# Altium footprint library PcbIC.PcbLib: 24 footprints (part 1 of 2)
Each footprint in its own frame and in the unit in brackets; x right, y up, seen from the top. Pads: shape width x height; smd on the part's side, far side on the other; paste and mask are expansions set on the pad; w line width, h text height; cw(c..) or ccw(c..) is an arc to the next point about the centre after c.
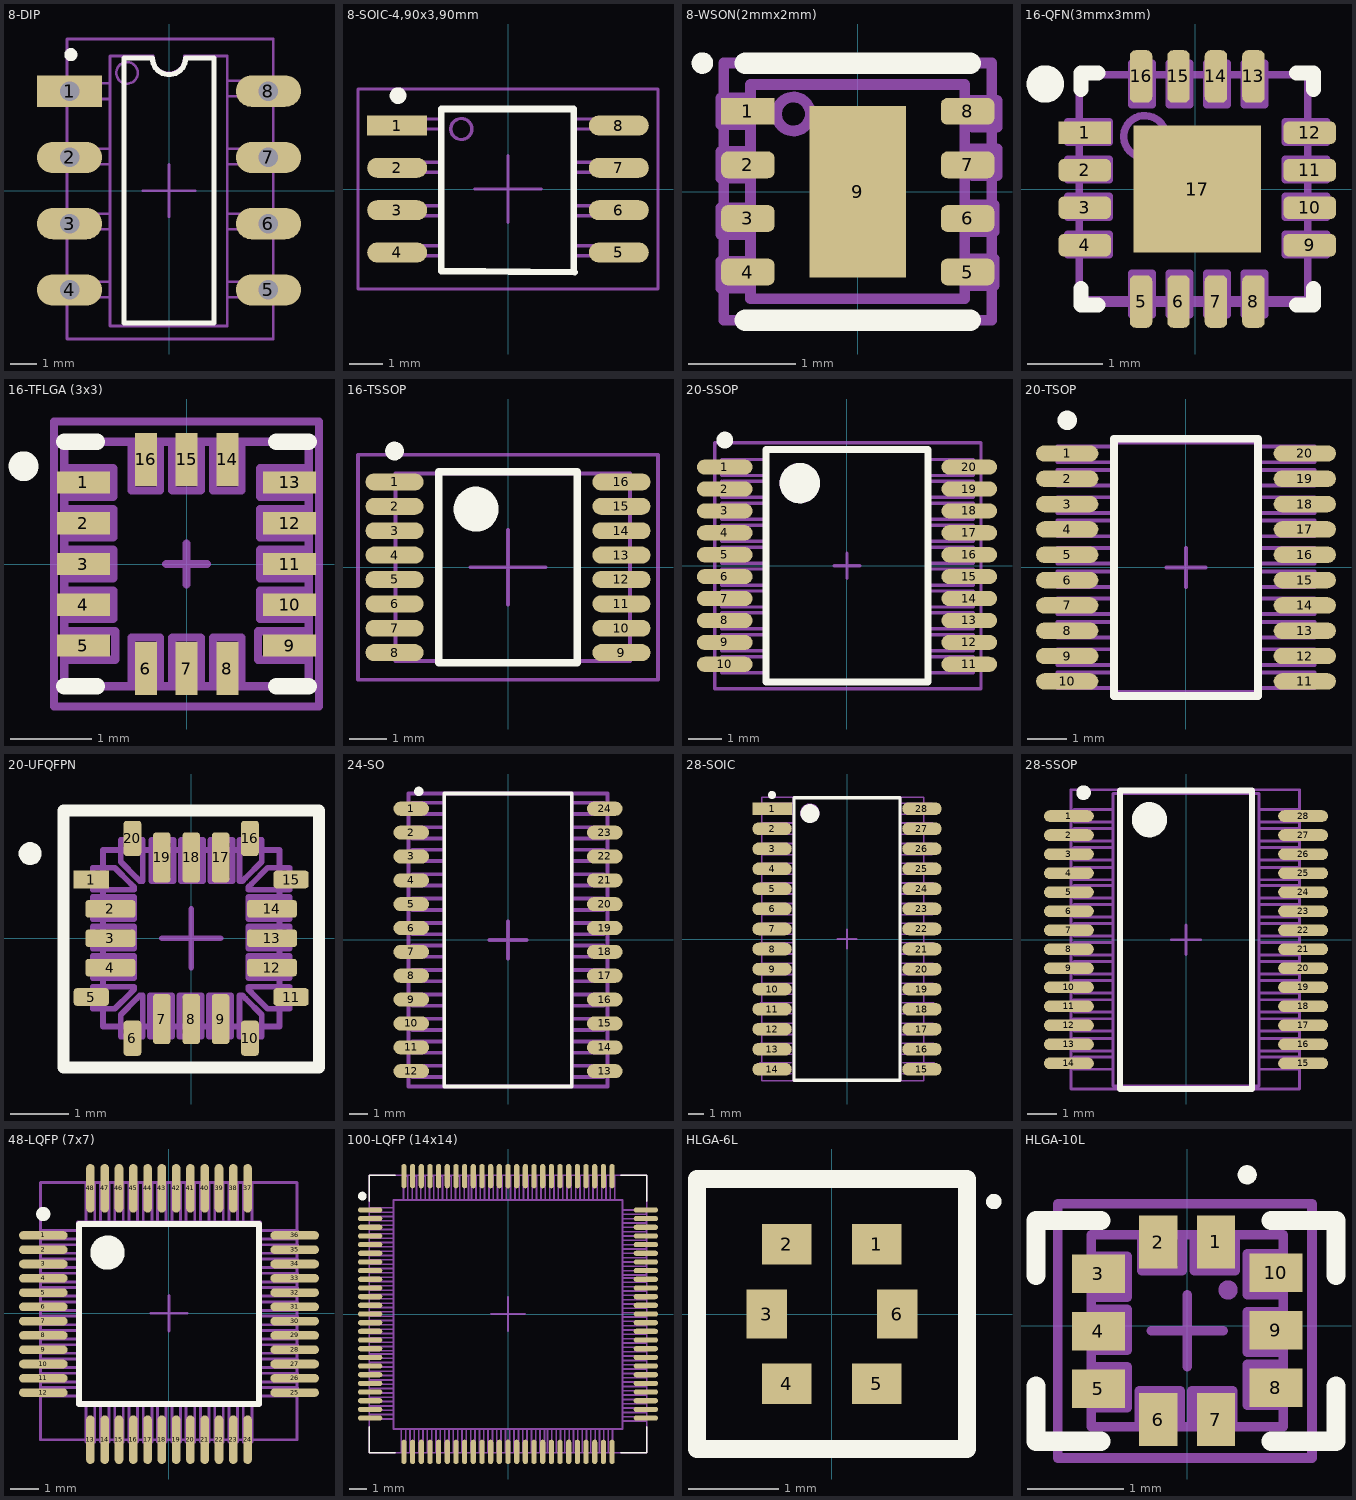
[diagram p0: the footprints below, top view; thin cyan lines are the x and y axes]

## 8-DIP [mm]
pads (8):
  rect 2.5x1.2 hole 0.75: 1(-3.81,3.81)
  oval 2.5x1.2 hole 0.75: 2(-3.81,1.27) 3(-3.81,-1.27) 4(-3.81,-3.81) 5(3.81,-3.81) 6(3.81,-1.27) 7(3.81,1.27) 8(3.81,3.81)
Top Overlay:
  circle w0.25: c-3.76,5.21 r0.125
  lines w0.2: -1.725,-5.08 -1.725,5.08 -0.635,5.08 ccw(c0,5.08) 0.635,5.08 1.725,5.08 1.725,-5.08 -1.725,-5.08
TopAssy:
  circle w0.1: c-1.61,4.51 r0.412
  lines w0.1: -2.26,-4.09 -4.71,-4.09 -4.71,-3.49 -2.26,-3.49 ; -2.26,-1.49 -4.71,-1.49 -4.71,-0.89 -2.26,-0.89 ; -2.26,1.01 -4.71,1.01 -4.71,1.61 -2.26,1.61 ; -2.26,3.51 -4.71,3.51 -4.71,4.11 -2.26,4.11 ; -2.135,5.16 -2.26,5.16 ; 2.24,-4.09 4.69,-4.09 4.69,-3.49 2.24,-3.49 ; 2.24,-1.49 4.69,-1.49 4.69,-0.89 2.24,-0.89 ; 2.24,1.01 4.69,1.01 4.69,1.61 2.24,1.61 ; 2.24,3.61 4.69,3.61 4.69,4.21 2.24,4.21 ; -2.26,5.16 -0.61,5.16 ccw(c-0.01,5.11) 0.59,5.16 2.24,5.16 2.24,-5.19 -2.26,-5.19 -2.26,5.16
Inside:
  lines w0.1: -1,0 1,0 ; 0,-1 0,1 ; -3.91,-5.69 3.99,-5.69 3.99,5.81 -3.91,5.81 -3.91,-5.69
3D body "CircuitWorks-DIP8.step": height 4.69, standoff -2.17, extent -3.885,-5.705 3.989,5.725

## 8-SOIC-4,90x3,90mm [mm] "SOIC, 8-Leads, Body 4,90x3,90mm, Pitch 1,27mm, IPC Medium Density"
height 2.65
pads (8):
  rect 1.8x0.6 smd: 1(-3.325,1.905)
  oval 1.8x0.6 smd: 2(-3.325,0.635) 3(-3.325,-0.635) 4(-3.325,-1.905) 5(3.325,-1.905) 6(3.325,-0.635) 7(3.325,0.635) 8(3.325,1.905)
Top Overlay:
  circle w0.25: c-3.3,2.8 r0.125
  lines w0.2: -2,-2.45 -2,2.4 1.975,2.4 1.975,-2.45 ; -2,-2.46 2,-2.5
TopAssy:
  circle w0.1: c-1.4,1.8 r0.316
  lines w0.1: -2,-2 -3,-2 -3,-1.7 -2,-1.7 ; -2,-0.8 -3,-0.8 -3,-0.5 -2,-0.5 ; -2,0.5 -3,0.5 -3,0.8 -2,0.8 ; -2,1.8 -3,1.8 -3,2.1 -2,2.1 ; 2,-2 3,-2 3,-1.7 2,-1.7 ; 2,-0.8 3,-0.8 3,-0.5 2,-0.5 ; 2,0.5 3,0.5 3,0.8 2,0.8 ; 2,1.8 3,1.8 3,2.1 2,2.1 ; -2,-2.4 -2,2.4 2,2.4 2,-2.5 -1.9,-2.5 -2,-2.4
Inside:
  lines w0.1: -1,0 1,0 ; 0,-1 0,1 ; -4.5,-3 -4.5,3 4.5,3 4.5,-3 -4.5,-3
3D body "User Library-SOIC-8-1.step": height 1.75, standoff 0, extent -3,-2.45 3,2.45

## 8-WSON(2mmx2mm) [mm] "SON, 8-Leads, Body 2,00x2,00mm, Pitch 0,50mm, Thermal Pad 1,60x0,90mm, IPC Medium Density"
height 0.8
pads (9):
  rect 0.5x0.25 smd: 1(-1.025,0.75)
  rrect50% 0.5x0.25 smd: 2(-1.025,0.25) 3(-1.025,-0.25) 4(-1.025,-0.75) 5(1.025,-0.75) 6(1.025,-0.25) 7(1.025,0.25) 8(1.025,0.75)
  rect 0.9x1.6 smd: 9(0,0)
Top Overlay:
  circle w0.1: c-1.45,1.2 r0.05
  lines w0.2: -1.05,-1.2 1,-1.2 ; -1.05,1.2 -0.975,1.2 ; -0.95,1.2 1.05,1.2 ; 0.975,-1.2 1.05,-1.2
TopAssy:
  circle w0.1: c-0.6,0.725 r0.158
  lines w0.1: -1.05,-0.9 -1.275,-0.9 -1.275,-0.65 -1,-0.65 ; -1.05,-0.4 -1.275,-0.4 -1.275,-0.15 -1,-0.15 ; -1.05,0.125 -1.275,0.125 -1.275,0.375 -1,0.375 ; -1.05,0.625 -1.275,0.625 -1.275,0.875 -1,0.875 ; 1,-0.625 1.275,-0.625 1.275,-0.875 1.05,-0.875 ; 1,-0.125 1.275,-0.125 1.275,-0.375 1.05,-0.375 ; 1.025,0.4 1.3,0.4 1.3,0.15 1.075,0.15 ; 1.025,0.85 1.3,0.85 1.3,0.6 1.075,0.6 ; -1,-1 1,-1 1,1 -1,1 -1,-1
Inside:
  lines w0.1: -0.3,0 0,0 ; 0,-0.3 0,0 ; 0,0.3 0,0 ; 0.3,0 0,0 ; -1.25,-1.2 1.25,-1.2 1.25,1.2 -1.25,1.2 -1.25,-1.2
3D body "User Library-SON8-2x2mm-1.step": height 0.77, standoff -0.03, extent -1,-1 1,1

## 16-QFN(3mmx3mm) [mm] "3mmx3mm"
height 1
pads (17):
  rect 0.7x0.3 smd: 1(-1.475,0.75)
  rrect50% 0.7x0.3 smd: 2(-1.475,0.25) 3(-1.475,-0.25) 4(-1.475,-0.75) 9(1.525,-0.75) 10(1.525,-0.25) 11(1.525,0.25) 12(1.525,0.75)
  rrect50% 0.3x0.7 smd: 5(-0.725,-1.5) 6(-0.225,-1.5) 7(0.275,-1.5) 8(0.775,-1.5) 13(0.775,1.5) 14(0.275,1.5) 15(-0.225,1.5) 16(-0.725,1.5)
  rect 1.7x1.7 smd: 17(0.025,0)
Top Overlay:
  circle w0.25: c-2,1.4 r0.125
  lines w0.2: -1.525,-1.325 -1.525,-1.55 -1.3,-1.55 ; -1.525,1.325 -1.525,1.55 -1.3,1.55 ; 1.35,-1.55 1.575,-1.55 1.575,-1.325 ; 1.35,1.55 1.575,1.55 1.575,1.325
TopAssy:
  circle w0.1: c-0.675,0.7 r0.28
  lines w0.1: -1.7,-0.875 -1.15,-0.875 -1.15,-0.6 -1.575,-0.6 -1.7,-0.6 -1.7,-0.875 ; -1.7,-0.375 -1.15,-0.375 -1.15,-0.1 -1.575,-0.1 -1.7,-0.1 -1.7,-0.375 ; -1.7,0.125 -1.15,0.125 -1.15,0.4 -1.575,0.4 -1.7,0.4 -1.7,0.125 ; -1.7,0.625 -1.7,0.9 -1.575,0.9 -1.15,0.9 -1.15,0.625 -1.7,0.625 ; -1.55,-1.525 -1.55,1.525 1.5,1.525 1.5,-1.525 -1.55,-1.525 ; -0.85,-1.675 -0.575,-1.675 -0.575,-1.125 -0.85,-1.125 -0.85,-1.55 -0.85,-1.675 ; -0.85,1.125 -0.85,1.675 -0.575,1.675 -0.575,1.55 -0.575,1.125 -0.85,1.125 ; -0.35,-1.675 -0.35,-1.55 -0.35,-1.125 -0.075,-1.125 -0.075,-1.675 -0.35,-1.675 ; -0.35,1.125 -0.35,1.675 -0.075,1.675 -0.075,1.55 -0.075,1.125 -0.35,1.125 ; 0.15,-1.675 0.15,-1.55 0.15,-1.125 0.425,-1.125 0.425,-1.675 0.15,-1.675 ; 0.15,1.125 0.15,1.675 0.425,1.675 0.425,1.55 0.425,1.125 0.15,1.125 ; 0.65,-1.675 0.65,-1.55 0.65,-1.125 0.925,-1.125 0.925,-1.675 0.65,-1.675 ; 0.65,1.125 0.925,1.125 0.925,1.55 0.925,1.675 0.65,1.675 0.65,1.125 ; 1.2,-0.875 1.625,-0.875 1.75,-0.875 1.75,-0.6 1.2,-0.6 1.2,-0.875 ; 1.2,-0.375 1.2,-0.1 1.75,-0.1 1.75,-0.375 1.625,-0.375 1.2,-0.375 ; 1.2,0.125 1.2,0.4 1.75,0.4 1.75,0.125 1.625,0.125 1.2,0.125 ; 1.2,0.625 1.2,0.9 1.75,0.9 1.75,0.625 1.625,0.625 1.2,0.625
Inside:
  lines w0.1: -1.55,-1.475 1.5,-1.475 1.5,1.525 -1.55,1.525 -1.55,-1.475
3D body "ALSRobot-QFN16 3x3.STEP": height 0.9, standoff 0, extent -1.549,-1.521 1.493,1.521

## 16-TFLGA (3x3) [mm]
pads (16):
  rect 0.65x0.27 smd: 1(-1.265,1) 2(-1.265,0.5) 3(-1.265,0) 4(-1.265,-0.5) 5(-1.265,-1) 9(1.265,-1) 10(1.265,-0.5) 11(1.265,0) 12(1.265,0.5) 13(1.265,1)
  rect 0.27x0.65 smd: 6(-0.5,-1.285) 7(0,-1.285) 8(0.5,-1.285) 14(0.5,1.285) 15(0,1.285) 16(-0.5,1.285)
Top Overlay:
  circle w0.254: c-2,1.2 r0.056
  lines w0.2: -1.5,-1.5 -1.1,-1.5 ; -1.5,1.5 -1.1,1.5 ; 1.1,-1.5 1.5,-1.5 ; 1.1,1.5 1.5,1.5
TopAssy:
  lines w0.1: -1.5,-0.675 -0.9,-0.675 -0.9,-0.325 -1.5,-0.325 ; -1.5,-0.175 -0.9,-0.175 -0.9,0.175 -1.5,0.175 ; -1.5,0.325 -0.9,0.325 -0.9,0.675 -1.5,0.675 ; -1.5,0.825 -0.9,0.825 -0.9,1.175 -1.5,1.175 ; -1.475,-1.175 -0.875,-1.175 -0.875,-0.825 -1.475,-0.825 ; -0.675,-1.5 -0.675,-0.9 -0.325,-0.9 -0.325,-1.5 ; -0.675,1.5 -0.675,0.9 -0.325,0.9 -0.325,1.5 ; -0.175,-1.5 -0.175,-0.9 0.175,-0.9 0.175,-1.5 ; -0.175,1.5 -0.175,0.9 0.175,0.9 0.175,1.5 ; 0.325,-1.5 0.325,-0.9 0.675,-0.9 0.675,-1.5 ; 0.325,1.5 0.325,0.9 0.675,0.9 0.675,1.5 ; 1.475,-1.175 0.875,-1.175 0.875,-0.825 1.475,-0.825 ; 1.5,-0.675 0.9,-0.675 0.9,-0.325 1.5,-0.325 ; 1.5,-0.175 0.9,-0.175 0.9,0.175 1.5,0.175 ; 1.5,0.325 0.9,0.325 0.9,0.675 1.5,0.675 ; 1.5,0.825 0.9,0.825 0.9,1.175 1.5,1.175 ; -1.5,-1.5 -1.5,1.475 -1.475,1.5 1.5,1.5 1.5,-1.5 -1.5,-1.5
Inside:
  lines w0.1: -0.25,0 0.25,0 ; 0,-0.25 0,0.25 ; -1.625,-1.75 -1.625,1.75 1.625,1.75 1.625,-1.75 -1.625,-1.75
3D body "User Library-LIS331AL.step": height 1.01, standoff -0.01, extent -1.5,-1.5 1.5,1.5

## 16-TSSOP [mm] "4.5mmx5.1mm1.2mm"
height 1.2
pads (16):
  oval 1.55x0.45 smd: 1(-3.025,2.275) 2(-3.025,1.625) 3(-3.025,0.975) 4(-3.025,0.325) 5(-3.025,-0.325) 6(-3.025,-0.975) 7(-3.025,-1.625) 8(-3.025,-2.275) 9(3.025,-2.275) 10(3.025,-1.625) 11(3.025,-0.975) 12(3.025,-0.325) 13(3.025,0.325) 14(3.025,0.975) 15(3.025,1.625) 16(3.025,2.275)
Top Overlay:
  circle w0.6: c-0.85,1.55 r0.3
  circle w0.25: c-3.025,3.1 r0.125
  lines w0.2: -1.85,-2.55 1.85,-2.55 1.85,2.55 -1.85,2.55 -1.85,-2.55
TopAssy:
  lines w0.1: -4,-3 4,-3 4,3 -4,3 -4,-3
Inside:
  lines w0.1: -1,0 1,0 ; 0,-1 0,1 ; -3,-2.5 3.25,-2.5 3.25,2.5 -3,2.5 -3,-2.5
3D body "User Library-TSSOP-16-1.step": height 1.1, standoff 0, extent -3.25,-2.5 3.15,2.5

## 20-SSOP [mm] "7.2mmx5.3mmx2mm"
height 2.65
pads (20):
  oval 1.65x0.45 smd: 1(-3.625,2.925) 2(-3.625,2.275) 3(-3.625,1.625) 4(-3.625,0.975) 5(-3.625,0.325) 6(-3.625,-0.325) 7(-3.625,-0.975) 8(-3.625,-1.625) 9(-3.625,-2.275) 10(-3.625,-2.925) 11(3.625,-2.925) 12(3.625,-2.275) 13(3.625,-1.625) 14(3.625,-0.975) 15(3.625,-0.325) 16(3.625,0.325) 17(3.625,0.975) 18(3.625,1.625) 19(3.625,2.275) 20(3.625,2.925)
Top Overlay:
  circle w0.25: c-3.625,3.725 r0.125
  circle w0.6: c-1.4,2.45 r0.3
  lines w0.2: -2.4,-3.45 -2.4,3.45 2.4,3.45 2.4,-3.45 -2.4,-3.45
TopAssy:
  circle w0.1: c-1.4,2.45 r0.549
  lines w0.1: -3.725,2.025 -3.725,2.5 ; -3.7,2.025 -2.375,2.025 ; -3.675,2.5 -2.375,2.5 ; -2.4,0.075 -3.725,0.075 -3.725,0.55 -2.375,0.55 ; -2.4,2.675 -3.725,2.675 -3.725,3.15 -3.7,3.15 -2.4,3.15 ; -2.375,-3.175 -3.725,-3.175 -3.725,-2.7 -2.375,-2.7 ; -2.375,-2.525 -3.725,-2.525 -3.725,-2.05 -2.375,-2.05 ; -2.375,-1.875 -3.725,-1.875 -3.725,-1.4 -2.375,-1.4 ; -2.375,-1.225 -3.725,-1.225 -3.725,-0.75 -2.375,-0.75 ; -2.375,-0.575 -3.725,-0.575 -3.725,-0.1 -2.375,-0.1 ; -2.375,0.725 -3.725,0.725 -3.725,1.2 -2.375,1.2 ; -2.375,1.375 -3.725,1.375 -3.725,1.85 -2.375,1.85 ; 2.4,-3.175 3.75,-3.175 3.75,-2.7 2.4,-2.7 ; 2.4,-2.525 3.75,-2.525 3.75,-2.05 2.4,-2.05 ; 2.4,-1.875 3.75,-1.875 3.75,-1.4 2.4,-1.4 ; 2.4,-1.225 3.75,-1.225 3.75,-0.75 2.4,-0.75 ; 2.4,-0.575 3.75,-0.575 3.75,-0.1 2.4,-0.1 ; 2.4,0.55 3.75,0.55 3.75,0.075 2.425,0.075 ; 2.4,0.725 3.75,0.725 3.75,1.2 2.4,1.2 ; 2.4,1.375 3.75,1.375 3.75,1.85 2.4,1.85 ; 2.4,2.025 3.725,2.025 ; 2.4,2.5 3.75,2.5 3.75,2.025 ; 2.425,2.675 3.75,2.675 3.75,3.15 3.725,3.15 2.425,3.15 ; -2.375,-3.45 -2.375,3.45 2.4,3.45 2.4,-3.45 -2.375,-3.45
Inside:
  lines w0.1: -0.375,0 0,0 ; 0,-0.375 0,0 ; 0,0.375 0,0 ; 0.375,0 0,0 ; -3.925,-3.65 -3.925,3.65 3.975,3.65 3.975,-3.65 -3.925,-3.65
3D body "User Library-SSOP_20.step": height 1.79, standoff -0.05, extent -3.925,-3.65 3.975,3.65

## 20-TSOP [mm] "TSOP, 20-Leads, Body 6,50x4,40mm, Pitch 0,65mm, IPC Medium Density"
height 1.1
pads (20):
  oval 1.6x0.42 smd: 1(-3.05,2.925) 2(-3.05,2.275) 3(-3.05,1.625) 4(-3.05,0.975) 5(-3.05,0.325) 6(-3.05,-0.325) 7(-3.05,-0.975) 8(-3.05,-1.625) 9(-3.05,-2.275) 10(-3.05,-2.925) 11(3.05,-2.925) 12(3.05,-2.275) 13(3.05,-1.625) 14(3.05,-0.975) 15(3.05,-0.325) 16(3.05,0.325) 17(3.05,0.975) 18(3.05,1.625) 19(3.05,2.275) 20(3.05,2.925)
Top Overlay:
  circle w0.25: c-3.05,3.775 r0.125
  lines w0.2: -1.85,-3.3 1.85,-3.3 1.85,3.3 -1.85,3.3 -1.85,-3.3
TopAssy:
  lines w0.1: -1.9,-2.7 -3.3,-2.7 -3.3,-3.1 -1.9,-3.1 ; -1.9,-2.5 -3.3,-2.5 -3.3,-2.1 -1.9,-2.1 ; -1.9,-1.8 -3.3,-1.8 -3.3,-1.4 -1.9,-1.4 ; -1.9,-1.2 -3.3,-1.2 -3.3,-0.8 -1.9,-0.8 ; -1.9,-0.5 -3.3,-0.5 -3.3,-0.1 -1.9,-0.1 ; -1.9,0.1 -3.3,0.1 -3.3,0.5 -1.9,0.5 ; -1.9,0.8 -3.3,0.8 -3.3,1.2 -1.9,1.2 ; -1.9,1.4 -3.3,1.4 -3.3,1.8 -1.9,1.8 ; -1.9,2.1 -3.3,2.1 -3.3,2.5 -1.9,2.5 ; -1.9,2.7 -3.3,2.7 -3.3,3.1 -1.9,3.1 ; 1.9,-3.1 3.3,-3.1 3.3,-2.7 1.9,-2.7 ; 1.9,-2.5 3.3,-2.5 3.3,-2.1 1.9,-2.1 ; 1.9,-1.8 3.3,-1.8 3.3,-1.4 1.9,-1.4 ; 1.9,-1.2 3.3,-1.2 3.3,-0.8 1.9,-0.8 ; 1.9,-0.5 3.3,-0.5 3.3,-0.1 1.9,-0.1 ; 1.9,0.1 3.3,0.1 3.3,0.5 1.9,0.5 ; 1.9,0.8 3.3,0.8 3.3,1.2 1.9,1.2 ; 1.9,1.4 3.3,1.4 3.3,1.8 1.9,1.8 ; 1.9,2.1 3.3,2.1 3.3,2.5 1.9,2.5 ; 1.9,2.7 3.3,2.7 3.3,3.1 1.9,3.1 ; -1.9,-3.1 -1.9,3.2 1.9,3.2 1.9,-3.2 -1.8,-3.2 -1.9,-3.1
Inside:
  lines w0.1: -0.5,0 0.5,0 ; 0,-0.5 0,0.5 ; -1.9,-3.3 -1.9,3.3 1.8,3.3 1.8,-3.3 -1.9,-3.3
3D body "User Library-TSSOP-20.step": height 1.2, standoff 0, extent -3.275,-3.3 3.275,3.3

## 20-UFQFPN [mm] "3mmx3mm"
height 0.6
pads (20):
  rect 0.6x0.3 smd: 1(-1.7,1)
  rrect35% 0.85x0.3 smd: 2(-1.375,0.5) 3(-1.375,0) 4(-1.375,-0.5) 12(1.375,-0.5) 13(1.375,0) 14(1.375,0.5)
  rrect35% 0.6x0.3 smd: 5(-1.7,-1) 11(1.7,-1) 15(1.7,1)
  rrect35% 0.3x0.6 smd: 6(-1,-1.7) 10(1,-1.7) 16(1,1.7) 20(-1,1.7)
  rrect35% 0.3x0.85 smd: 7(-0.5,-1.375) 8(0,-1.375) 9(0.5,-1.375) 17(0.5,1.375) 18(0,1.375) 19(-0.5,1.375)
Top Overlay:
  region: -2.74,1.25 -2.778,1.25 -2.848,1.279 -2.902,1.333 -2.931,1.402 -2.931,1.44 -2.931,1.478 -2.902,1.548 -2.848,1.602 -2.778,1.631 -2.74,1.631 -2.702,1.631 -2.633,1.602 -2.579,1.548 -2.55,1.478 -2.55,1.44 -2.55,1.402 -2.579,1.333 -2.633,1.279 -2.702,1.25
  lines w0.2: -2.175,-0.025 -2.175,2.175 0.2,2.175 2.175,2.175 2.175,-0.025 ; -2.175,0.025 -2.175,-2.2 0.175,-2.2 2.175,-2.2 2.175,0.025
TopAssy:
  lines w0.1: -1.325,1.2 -1.675,1.2 -1.675,0.825 -0.975,0.825 -0.975,0.875 -1.025,0.925 -1.3,1.2 ; -1.2,-1.325 -1.2,-1.675 -0.825,-1.675 -0.825,-0.975 -0.875,-0.975 -0.925,-1.025 -1.2,-1.3 ; -1.2,1.3 -0.925,1.025 -0.875,0.975 -0.825,0.975 -0.825,1.675 -1.2,1.675 -1.2,1.325 ; 1.2,-1.325 1.2,-1.675 0.825,-1.675 0.825,-0.975 0.875,-0.975 0.925,-1.025 1.2,-1.3 ; 1.2,1.3 0.925,1.025 0.875,0.975 0.825,0.975 0.825,1.675 1.2,1.675 1.2,1.325 ; 1.3,-1.2 1.025,-0.925 0.975,-0.875 0.975,-0.825 1.675,-0.825 1.675,-1.2 1.325,-1.2 ; 1.3,1.2 1.025,0.925 0.975,0.875 0.975,0.825 1.675,0.825 1.675,1.2 1.325,1.2 ; -1.675,-1.2 -1.675,-0.825 -0.975,-0.825 -0.975,-0.875 -1.025,-0.925 -1.3,-1.2 -1.325,-1.2 -1.675,-1.2 ; -1.675,-0.675 -1.675,-0.3 -0.975,-0.3 -0.975,-0.675 -1.675,-0.675 ; -1.675,-0.175 -1.675,0.2 -0.975,0.2 -0.975,-0.175 -1.675,-0.175 ; -1.675,0.325 -0.975,0.325 -0.975,0.7 -1.675,0.7 -1.675,0.325 ; -1.5,-1.5 -1.5,1.5 1.5,1.5 1.5,-1.5 -1.5,-1.5 ; -0.7,-1.675 -0.325,-1.675 -0.325,-0.975 -0.7,-0.975 -0.7,-1.675 ; -0.675,0.975 -0.3,0.975 -0.3,1.675 -0.675,1.675 -0.675,0.975 ; -0.2,-1.675 -0.2,-0.975 0.175,-0.975 0.175,-1.675 -0.2,-1.675 ; -0.175,0.975 -0.175,1.675 0.2,1.675 0.2,0.975 -0.175,0.975 ; 0.3,-1.675 0.3,-0.975 0.675,-0.975 0.675,-1.675 0.3,-1.675 ; 0.325,0.975 0.325,1.675 0.7,1.675 0.7,0.975 0.325,0.975 ; 0.975,-0.675 0.975,-0.3 1.675,-0.3 1.675,-0.675 0.975,-0.675 ; 0.975,-0.175 0.975,0.2 1.675,0.2 1.675,-0.175 0.975,-0.175 ; 0.975,0.325 1.675,0.325 1.675,0.7 0.975,0.7 0.975,0.325
Inside:
  lines w0.1: -0.5,0 0,0 ; 0,-0.5 0,0 ; 0,0.5 0,0 ; 0.5,0 0,0 ; -2.175,-2.2 2.175,-2.2 2.175,2.15 -2.175,2.15 -2.175,-2.2
3D body "User Library-UFQFPN20-1.step": height 0.55, standoff 0, extent -1.5,-1.5 1.5,1.5

## 24-SO [mm] "SO-24 10.65mmx15.65mmx1mm"
height 2.65
pads (24):
  oval 1.9x0.75 smd: 1(-5.15,6.985) 2(-5.15,5.715) 3(-5.15,4.445) 4(-5.15,3.175) 5(-5.15,1.905) 6(-5.15,0.635) 7(-5.15,-0.635) 8(-5.15,-1.905) 9(-5.15,-3.175) 10(-5.15,-4.445) 11(-5.15,-5.715) 12(-5.15,-6.985) 13(5.15,-6.985) 14(5.15,-5.715) 15(5.15,-4.445) 16(5.15,-3.175) 17(5.15,-1.905) 18(5.15,-0.635) 19(5.15,0.635) 20(5.15,1.905) 21(5.15,3.175) 22(5.15,4.445) 23(5.15,5.715) 24(5.15,6.985)
Top Overlay:
  circle w0.25: c-4.75,7.91 r0.125
  lines w0.2: -3.4,-7.8 -3.4,7.8 3.4,7.8 3.4,-7.8 -3.4,-7.8
TopAssy:
  lines w0.2: -3.4,-7.3 -5.1,-7.3 -5.1,-6.7 -3.4,-6.7 ; -3.4,-6 -5.1,-6 -5.1,-5.4 -3.4,-5.4 ; -3.4,-4.8 -5.1,-4.8 -5.1,-4.2 -3.4,-4.2 ; -3.4,-3.5 -5.1,-3.5 -5.1,-2.9 -3.4,-2.9 ; -3.4,-2.2 -5.1,-2.2 -5.1,-1.6 -3.4,-1.6 ; -3.4,-0.9 -5.1,-0.9 -5.1,-0.3 -3.4,-0.3 ; -3.4,0.3 -5.1,0.3 -5.1,0.9 -3.4,0.9 ; -3.4,1.6 -5.1,1.6 -5.1,2.2 -3.4,2.2 ; -3.4,2.9 -5.1,2.9 -5.1,3.5 -3.4,3.5 ; -3.4,4.2 -5.1,4.2 -5.1,4.8 -3.4,4.8 ; -3.4,5.4 -5.1,5.4 -5.1,6 -3.4,6 ; -3.4,6.7 -5.1,6.7 -5.1,7.3 -3.4,7.3 ; 3.4,-7.3 5.1,-7.3 5.1,-6.7 3.4,-6.7 ; 3.4,-6 5.1,-6 5.1,-5.4 3.4,-5.4 ; 3.4,-4.8 5.1,-4.8 5.1,-4.2 3.4,-4.2 ; 3.4,-3.5 5.1,-3.5 5.1,-2.9 3.4,-2.9 ; 3.4,-2.2 5.1,-2.2 5.1,-1.6 3.4,-1.6 ; 3.4,-0.9 5.1,-0.9 5.1,-0.3 3.4,-0.3 ; 3.4,0.3 5.1,0.3 5.1,0.9 3.4,0.9 ; 3.4,1.6 5.1,1.6 5.1,2.2 3.4,2.2 ; 3.4,2.9 5.1,2.9 5.1,3.5 3.4,3.5 ; 3.4,4.2 5.1,4.2 5.1,4.8 3.4,4.8 ; 3.4,5.4 5.1,5.4 5.1,6 3.4,6 ; 3.4,6.7 5.1,6.7 5.1,7.3 3.4,7.3 ; -3.4,-7.8 -3.4,7.8 3.4,7.8 3.4,-7.8 -3.4,-7.8
Inside:
  lines w0.2: -1,0 1,0 ; 0,-1 0,1 ; -5.3,-7.8 -5.3,7.8 5.3,7.8 5.3,-7.8 -5.3,-7.8
3D body "User Library-SO24.STEP": height 2.65, standoff 0, extent -5.3,-7.8 5.3,7.8

## 28-SOIC [mm] "7.5mmx17.90mm"
height 2.65
pads (28):
  rect 2.5x0.8 smd: 1(-4.75,8.255)
  oval 2.5x0.8 smd: 2(-4.75,6.985) 3(-4.75,5.715) 4(-4.75,4.445) 5(-4.75,3.175) 6(-4.75,1.905) 7(-4.75,0.635) 8(-4.75,-0.635) 9(-4.75,-1.905) 10(-4.75,-3.175) 11(-4.75,-4.445) 12(-4.75,-5.715) 13(-4.75,-6.985) 14(-4.75,-8.255) 15(4.75,-8.255) 16(4.75,-6.985) 17(4.75,-5.715) 18(4.75,-4.445) 19(4.75,-3.175) 20(4.75,-1.905) 21(4.75,-0.635) 22(4.75,0.635) 23(4.75,1.905) 24(4.75,3.175) 25(4.75,4.445) 26(4.75,5.715) 27(4.75,6.985) 28(4.75,8.255)
Top Overlay:
  circle w0.25: c-4.75,9.13 r0.125
  circle w0.6: c-2.35,7.95 r0.3
  lines w0.2: -3.35,-8.95 -3.35,8.95 3.35,8.95 3.35,-8.95 -3.35,-8.95
TopAssy:
  circle w0.1: c-2.35,7.975 r0.571
  lines w0.1: -3.525,-8.55 -5.525,-8.55 -5.525,-7.85 -3.525,-7.85 ; -3.5,-7.3 -5.5,-7.3 -5.5,-6.6 -3.5,-6.6 ; -3.5,-4.75 -5.5,-4.75 -5.5,-4.05 -3.5,-4.05 ; -3.475,-6.05 -5.475,-6.05 -5.475,-5.35 -3.475,-5.35 ; -3.475,-3.5 -5.475,-3.5 -5.475,-2.8 -3.475,-2.8 ; -3.475,-0.95 -5.475,-0.95 -5.475,-0.25 -3.475,-0.25 ; -3.45,-2.25 -5.45,-2.25 -5.45,-1.55 -3.45,-1.55 ; -3.45,0.3 -5.45,0.3 -5.45,1 -3.45,1 ; -3.45,2.85 -5.45,2.85 -5.45,3.55 -3.45,3.55 ; -3.425,1.55 -5.425,1.55 -5.425,2.25 -3.425,2.25 ; -3.425,4.1 -5.425,4.1 -5.425,4.8 -3.425,4.8 ; -3.425,6.65 -5.425,6.65 -5.425,7.35 -3.425,7.35 ; -3.4,5.35 -5.4,5.35 -5.4,6.05 -3.4,6.05 ; -3.4,7.9 -5.4,7.9 -5.4,8.6 -3.4,8.6 ; 3.4,5.35 5.4,5.35 5.4,6.05 3.4,6.05 ; 3.4,7.9 5.4,7.9 5.4,8.6 3.4,8.6 ; 3.425,1.55 5.425,1.55 5.425,2.25 3.425,2.25 ; 3.425,4.1 5.425,4.1 5.425,4.8 3.425,4.8 ; 3.425,6.65 5.425,6.65 5.425,7.35 3.425,7.35 ; 3.45,-2.25 5.45,-2.25 5.45,-1.55 3.45,-1.55 ; 3.45,0.3 5.45,0.3 5.45,1 3.45,1 ; 3.45,2.85 5.45,2.85 5.45,3.55 3.45,3.55 ; 3.475,-6.05 5.475,-6.05 5.475,-5.35 3.475,-5.35 ; 3.475,-3.5 5.475,-3.5 5.475,-2.8 3.475,-2.8 ; 3.475,-0.95 5.475,-0.95 5.475,-0.25 3.475,-0.25 ; 3.5,-7.3 5.5,-7.3 5.5,-6.6 3.5,-6.6 ; 3.5,-4.75 5.5,-4.75 5.5,-4.05 3.5,-4.05 ; 3.525,-8.55 5.525,-8.55 5.525,-7.85 3.525,-7.85 ; -3.4,-9 -3.4,9 3.4,9 3.4,-9 -3.4,-9
Inside:
  lines w0.1: -0.625,0 0.625,0 ; 0,-0.625 0,0.625 ; -5.4,-8.975 -5.4,8.975 4.875,8.975 4.875,-8.975 -5.4,-8.975
3D body "User Library-SOIC28-300.step": height 2.65, standoff 0, extent -5.4,-8.95 4.9,8.95

## 28-SSOP [mm] "SSOP, 28-Leads, Body 10,20x5,30mm, Pitch 0,65mm, IPC Medium Density"
height 2.65
pads (28):
  oval 1.7x0.4 smd: 1(-4,4.225) 2(-4,3.575) 3(-4,2.925) 4(-4,2.275) 5(-4,1.625) 6(-4,0.975) 7(-4,0.325) 8(-4,-0.325) 9(-4,-0.975) 10(-4,-1.625) 11(-4,-2.275) 12(-4,-2.925) 13(-4,-3.575) 14(-4,-4.225) 15(4,-4.225) 16(4,-3.575) 17(4,-2.925) 18(4,-2.275) 19(4,-1.625) 20(4,-0.975) 21(4,-0.325) 22(4,0.325) 23(4,0.975) 24(4,1.625) 25(4,2.275) 26(4,2.925) 27(4,3.575) 28(4,4.225)
Top Overlay:
  circle w0.25: c-3.5,5.025 r0.125
  circle w0.6: c-1.25,4.1 r0.3
  lines w0.2: -2.25,-5.1 -2.25,5.1 2.25,5.1 2.25,-5.1 -2.25,-5.1
TopAssy:
  circle w0.1: c-1.25,4.1 r0.493
  lines w0.1: -2.525,-3.8 -3.85,-3.8 -3.85,-3.375 -2.525,-3.375 ; -2.5,-4.425 -3.825,-4.425 -3.825,-4 -2.5,-4 ; -2.5,-3.125 -3.825,-3.125 -3.825,-2.7 -2.5,-2.7 ; -2.5,-2.475 -3.825,-2.475 -3.825,-2.05 -2.5,-2.05 ; -2.5,-1.825 -3.825,-1.825 -3.825,-1.4 -2.5,-1.4 ; -2.5,-1.175 -3.825,-1.175 -3.825,-0.75 -2.5,-0.75 ; -2.5,-0.525 -3.825,-0.525 -3.825,-0.1 -2.5,-0.1 ; -2.5,0.125 -3.825,0.125 -3.825,0.55 -2.5,0.55 ; -2.5,0.775 -3.825,0.775 -3.825,1.2 -2.5,1.2 ; -2.5,1.425 -3.825,1.425 -3.825,1.85 -2.5,1.85 ; -2.5,2.05 -3.825,2.05 -3.825,2.475 -2.5,2.475 ; -2.5,2.725 -3.825,2.725 -3.825,3.15 -2.5,3.15 ; -2.5,3.375 -3.825,3.375 -3.825,3.8 -2.5,3.8 ; -2.5,4.025 -3.825,4.025 -3.825,4.45 -2.5,4.45 ; 2.5,-4.425 3.825,-4.425 3.825,-4 2.5,-4 ; 2.5,-3.125 3.825,-3.125 3.825,-2.7 2.5,-2.7 ; 2.5,-2.475 3.825,-2.475 3.825,-2.05 2.5,-2.05 ; 2.5,-1.825 3.825,-1.825 3.825,-1.4 2.5,-1.4 ; 2.5,-1.175 3.825,-1.175 3.825,-0.75 2.5,-0.75 ; 2.5,-0.525 3.825,-0.525 3.825,-0.1 2.5,-0.1 ; 2.5,0.125 3.825,0.125 3.825,0.55 2.5,0.55 ; 2.5,0.775 3.825,0.775 3.825,1.2 2.5,1.2 ; 2.5,1.425 3.825,1.425 3.825,1.85 2.5,1.85 ; 2.5,2.05 3.825,2.05 3.825,2.475 2.5,2.475 ; 2.5,2.725 3.825,2.725 3.825,3.15 2.5,3.15 ; 2.5,3.375 3.825,3.375 3.825,3.8 2.5,3.8 ; 2.5,4.025 3.825,4.025 3.825,4.45 2.5,4.45 ; 2.525,-3.8 3.85,-3.8 3.85,-3.375 2.525,-3.375 ; -2.5,-5 -2.5,5 2.5,5 2.5,-5 -2.5,-5
Inside:
  lines w0.1: -0.5,0 0.5,0 ; 0,-0.5 0,0.5 ; -3.925,-5.1 3.875,-5.1 3.875,5.125 -3.925,5.125 -3.925,-5.1
3D body "User Library-SSOP-28-2.step": height 2, standoff 0, extent -3.931,-5.075 3.881,5.125

## 48-LQFP (7x7) [mm] "7mmx7mmx1mm"
height 1
pads (48):
  oval 1.7x0.3 smd: 1(-4.4,2.725) 2(-4.4,2.225) 3(-4.4,1.725) 4(-4.4,1.225) 5(-4.4,0.725) 6(-4.4,0.225) 7(-4.4,-0.275) 8(-4.4,-0.775) 9(-4.4,-1.275) 10(-4.4,-1.775) 11(-4.4,-2.275) 12(-4.4,-2.775) 25(4.4,-2.775) 26(4.4,-2.275) 27(4.4,-1.775) 28(4.4,-1.275) 29(4.4,-0.775) 30(4.4,-0.275) 31(4.4,0.225) 32(4.4,0.725) 33(4.4,1.225) 34(4.4,1.725) 35(4.4,2.225) 36(4.4,2.725)
  oval 0.3x1.7 smd: 13(-2.75,-4.425) 14(-2.25,-4.425) 15(-1.75,-4.425) 16(-1.25,-4.425) 17(-0.75,-4.425) 18(-0.25,-4.425) 19(0.25,-4.425) 20(0.75,-4.425) 21(1.25,-4.425) 22(1.75,-4.425) 23(2.25,-4.425) 24(2.75,-4.425) 37(2.75,4.375) 38(2.25,4.375) 39(1.75,4.375) 40(1.25,4.375) 41(0.75,4.375) 42(0.25,4.375) 43(-0.25,4.375) 44(-0.75,4.375) 45(-1.25,4.375) 46(-1.75,4.375) 47(-2.25,4.375) 48(-2.75,4.375)
Top Overlay:
  circle w0.25: c-4.4,3.475 r0.125
  circle w0.6: c-2.15,2.125 r0.3
  lines w0.2: -3.15,-3.175 -3.15,3.125 3.15,3.125 3.15,-3.175 -3.15,-3.175
TopAssy:
  lines w0.1: -3.2,-2.9 -4.5,-2.9 -4.5,-2.6 -3.2,-2.6 ; -3.2,-2.4 -4.5,-2.4 -4.5,-2.1 -3.2,-2.1 ; -3.2,-1.9 -4.5,-1.9 -4.5,-1.6 -3.2,-1.6 ; -3.2,-1.4 -4.5,-1.4 -4.5,-1.1 -3.2,-1.1 ; -3.2,-0.9 -4.5,-0.9 -4.5,-0.6 -3.2,-0.6 ; -3.2,-0.4 -4.5,-0.4 -4.5,-0.1 -3.2,-0.1 ; -3.2,0.1 -4.5,0.1 -4.5,0.4 -3.2,0.4 ; -3.2,0.6 -4.5,0.6 -4.5,0.9 -3.2,0.9 ; -3.2,1.1 -4.5,1.1 -4.5,1.4 -3.2,1.4 ; -3.2,1.6 -4.5,1.6 -4.5,1.9 -3.2,1.9 ; -3.2,2.1 -4.5,2.1 -4.5,2.4 -3.2,2.4 ; -3.2,2.6 -4.5,2.6 -4.5,2.9 -3.2,2.9 ; -2.9,-3.2 -2.9,-4.5 -2.6,-4.5 -2.6,-3.2 ; -2.9,3.2 -2.9,4.5 -2.6,4.5 -2.6,3.2 ; -2.4,-3.2 -2.4,-4.5 -2.1,-4.5 -2.1,-3.2 ; -2.4,3.2 -2.4,4.5 -2.1,4.5 -2.1,3.2 ; -1.9,-3.2 -1.9,-4.5 -1.6,-4.5 -1.6,-3.2 ; -1.9,3.2 -1.9,4.5 -1.6,4.5 -1.6,3.2 ; -1.4,-3.2 -1.4,-4.5 -1.1,-4.5 -1.1,-3.2 ; -1.4,3.2 -1.4,4.5 -1.1,4.5 -1.1,3.2 ; -0.9,-3.2 -0.9,-4.5 -0.6,-4.5 -0.6,-3.2 ; -0.9,3.2 -0.9,4.5 -0.6,4.5 -0.6,3.2 ; -0.4,-3.2 -0.4,-4.5 -0.1,-4.5 -0.1,-3.2 ; -0.4,3.2 -0.4,4.5 -0.1,4.5 -0.1,3.2 ; 0.1,-3.2 0.1,-4.5 0.4,-4.5 0.4,-3.2 ; 0.1,3.2 0.1,4.5 0.4,4.5 0.4,3.2 ; 0.6,-3.2 0.6,-4.5 0.9,-4.5 0.9,-3.2 ; 0.6,3.2 0.6,4.5 0.9,4.5 0.9,3.2 ; 1.1,-3.2 1.1,-4.5 1.4,-4.5 1.4,-3.2 ; 1.1,3.2 1.1,4.5 1.4,4.5 1.4,3.2 ; 1.6,-3.2 1.6,-4.5 1.9,-4.5 1.9,-3.2 ; 1.6,3.2 1.6,4.5 1.9,4.5 1.9,3.2 ; 2.1,-3.2 2.1,-4.5 2.4,-4.5 2.4,-3.2 ; 2.1,3.2 2.1,4.5 2.4,4.5 2.4,3.2 ; 2.6,-3.2 2.6,-4.5 2.9,-4.5 2.9,-3.2 ; 2.6,3.2 2.6,4.5 2.9,4.5 2.9,3.2 ; 3.2,-2.9 4.5,-2.9 4.5,-2.6 3.2,-2.6 ; 3.2,-2.4 4.5,-2.4 4.5,-2.1 3.2,-2.1 ; 3.2,-1.9 4.5,-1.9 4.5,-1.6 3.2,-1.6 ; 3.2,-1.4 4.5,-1.4 4.5,-1.1 3.2,-1.1 ; 3.2,-0.9 4.5,-0.9 4.5,-0.6 3.2,-0.6 ; 3.2,-0.4 4.5,-0.4 4.5,-0.1 3.2,-0.1 ; 3.2,0.1 4.5,0.1 4.5,0.4 3.2,0.4 ; 3.2,0.6 4.5,0.6 4.5,0.9 3.2,0.9 ; 3.2,1.1 4.5,1.1 4.5,1.4 3.2,1.4 ; 3.2,1.6 4.5,1.6 4.5,1.9 3.2,1.9 ; 3.2,2.1 4.5,2.1 4.5,2.4 3.2,2.4 ; 3.2,2.6 4.5,2.6 4.5,2.9 3.2,2.9 ; -3.2,-3.2 -3.2,3.1 -3.2,3.2 3.2,3.2 3.2,-3.2 -3.2,-3.2
Inside:
  lines w0.1: -0.625,0 0,0 ; 0,-0.625 0,0 ; 0,0.625 0,0 ; 0.625,0 0,0 ; -4.5,-4.425 -4.5,4.575 4.475,4.575 4.475,-4.425 -4.5,-4.425
3D body "User Library-Quad50M48.step": height 1.56, standoff 0, extent -4.5,-4.436 4.5,4.564

## 100-LQFP (14x14) [mm] "14 x 14x0.5"
height 1
pads (100):
  oval 1.4x0.3 smd: 1(-7.95,6) 2(-7.95,5.5) 3(-7.95,5) 4(-7.95,4.5) 5(-7.95,4) 6(-7.95,3.5) 7(-7.95,3) 8(-7.95,2.5) 9(-7.95,2) 10(-7.95,1.5) 11(-7.95,1) 12(-7.95,0.5) 13(-7.95,0) 14(-7.95,-0.5) 15(-7.95,-1) 16(-7.95,-1.5) 17(-7.95,-2) 18(-7.95,-2.5) 19(-7.95,-3) 20(-7.95,-3.5) 21(-7.95,-4) 22(-7.95,-4.5) 23(-7.95,-5) 24(-7.95,-5.5) 25(-7.95,-6) 51(7.95,-6) 52(7.95,-5.5) 53(7.95,-5) 54(7.95,-4.5) 55(7.95,-4) 56(7.95,-3.5) 57(7.95,-3) 58(7.95,-2.5) 59(7.95,-2) 60(7.95,-1.5) 61(7.95,-1) 62(7.95,-0.5) 63(7.95,0) 64(7.95,0.5) 65(7.95,1) 66(7.95,1.5) 67(7.95,2) 68(7.95,2.5) 69(7.95,3) 70(7.95,3.5) 71(7.95,4) 72(7.95,4.5) 73(7.95,5) 74(7.95,5.5) 75(7.95,6)
  oval 0.3x1.4 smd: 26(-6,-7.95) 27(-5.5,-7.95) 28(-5,-7.95) 29(-4.5,-7.95) 30(-4,-7.95) 31(-3.5,-7.95) 32(-3,-7.95) 33(-2.5,-7.95) 34(-2,-7.95) 35(-1.5,-7.95) 36(-1,-7.95) 37(-0.5,-7.95) 38(0,-7.95) 39(0.5,-7.95) 40(1,-7.95) 41(1.5,-7.95) 42(2,-7.95) 43(2.5,-7.95) 44(3,-7.95) 45(3.5,-7.95) 46(4,-7.95) 47(4.5,-7.95) 48(5,-7.95) 49(5.5,-7.95) 50(6,-7.95) 76(6,7.95) 77(5.5,7.95) 78(5,7.95) 79(4.5,7.95) 80(4,7.95) 81(3.5,7.95) 82(3,7.95) 83(2.5,7.95) 84(2,7.95) 85(1.5,7.95) 86(1,7.95) 87(0.5,7.95) 88(0,7.95) 89(-0.5,7.95) 90(-1,7.95) 91(-1.5,7.95) 92(-2,7.95) 93(-2.5,7.95) 94(-3,7.95) 95(-3.5,7.95) 96(-4,7.95) 97(-4.5,7.95) 98(-5,7.95) 99(-5.5,7.95) 100(-6,7.95)
Top Overlay:
  circle w0.25: c-8.4,6.8 r0.125
  lines w0.1: -8,-6.5 -8,-8 -6.5,-8 ; -8,6.5 -8,8 -6.5,8 ; 6.5,-8 8,-8 8,-6.5 ; 6.5,8 8,8 8,6.5
TopAssy:
  drawing of 304 lines, arcs and shapes, not listed
Inside:
  lines w0.1: -1,0 1,0 ; 0,-1 0,1 ; -8,-8 -8,8 8,8 8,-8 -8,-8
3D body "User Library-LQFP100_Grid_0_5.STEP": height 1.6, standoff 0, extent -8,-8 8,8

## HLGA-6L [mm] "2mm x 2mmx 0.9 mm"
height 0.9
pads (6):
  rect 0.55x0.45 smd: 1(0.5,0.775) 2(-0.5,0.775) 4(-0.5,-0.775) 5(0.5,-0.775)
  rect 0.45x0.55 smd: 3(-0.725,0) 6(0.725,0)
Top Overlay:
  circle w0.1: c1.8,1.25 r0.035
  lines w0.2: -1.5,-1.5 0,-1.5 1.5,-1.5 1.5,1.5 0,1.5 -1.5,1.5 -1.5,-1.5

## HLGA-10L [mm] "(2.5 x 2.5 x 0.76 mm"
height 0.76
pads (10):
  rect 0.4x0.55 smd: 1(0.3,0.875) 2(-0.3,0.875) 6(-0.3,-0.975) 7(0.3,-0.975)
  rect 0.55x0.4 smd: 3(-0.925,0.545) 4(-0.925,-0.055) 5(-0.925,-0.655) 8(0.925,-0.645) 9(0.925,-0.045) 10(0.925,0.555)
Top Overlay:
  circle w0.1: c0.625,1.575 r0.05
  lines w0.2: -1.575,-0.625 -1.575,-1.2 -0.9,-1.2 ; -1.575,0.525 -1.575,1.1 -0.9,1.1 ; 0.875,-1.2 1.55,-1.2 1.55,-0.625 ; 0.875,1.1 1.55,1.1 1.55,0.525
TopAssy:
  lines w0.1: -1,-0.85 -0.625,-0.85 -0.625,-0.425 -1,-0.425 ; -1,-0.25 -0.625,-0.25 -0.625,0.175 -0.975,0.175 ; -1,0.3 -0.625,0.3 -0.625,0.725 -1,0.725 ; -0.5,-1.05 -0.5,-0.675 -0.075,-0.675 -0.075,-1.05 ; -0.475,0.95 -0.475,0.575 -0.05,0.575 -0.05,0.925 ; 0.05,-1.025 0.05,-0.675 0.475,-0.675 0.475,-1.05 ; 0.075,0.95 0.075,0.575 0.5,0.575 0.5,0.95 ; 0.413,0.326 cw(c0.425,0.375) 0.425,0.325 ; 0.975,-0.275 0.625,-0.275 0.625,0.15 1,0.15 ; 1,-0.825 0.625,-0.825 0.625,-0.4 1,-0.4 ; 1,0.325 0.625,0.325 0.625,0.75 1,0.75 ; -1,-1.05 -1,0.95 1,0.95 1,0.925 1,-1.05 -1,-1.05
Inside:
  lines w0.1: -0.375,-0.05 0,-0.05 ; 0,-0.425 0,-0.05 ; 0,0.325 0,-0.05 ; 0.375,-0.05 0,-0.05 ; -1.35,-1.375 -1.35,1.275 1.3,1.275 1.3,-1.375 -1.35,-1.375
3D body "User Library-HLGA-10L.step": height 0.76, standoff -0.04, extent -1,-1.05 1,0.95